# Altium schematic symbol library BluetoothTracking.SchLib: 121 symbols
Pins are listed as number, name and electrical type; pins without a type are passive.

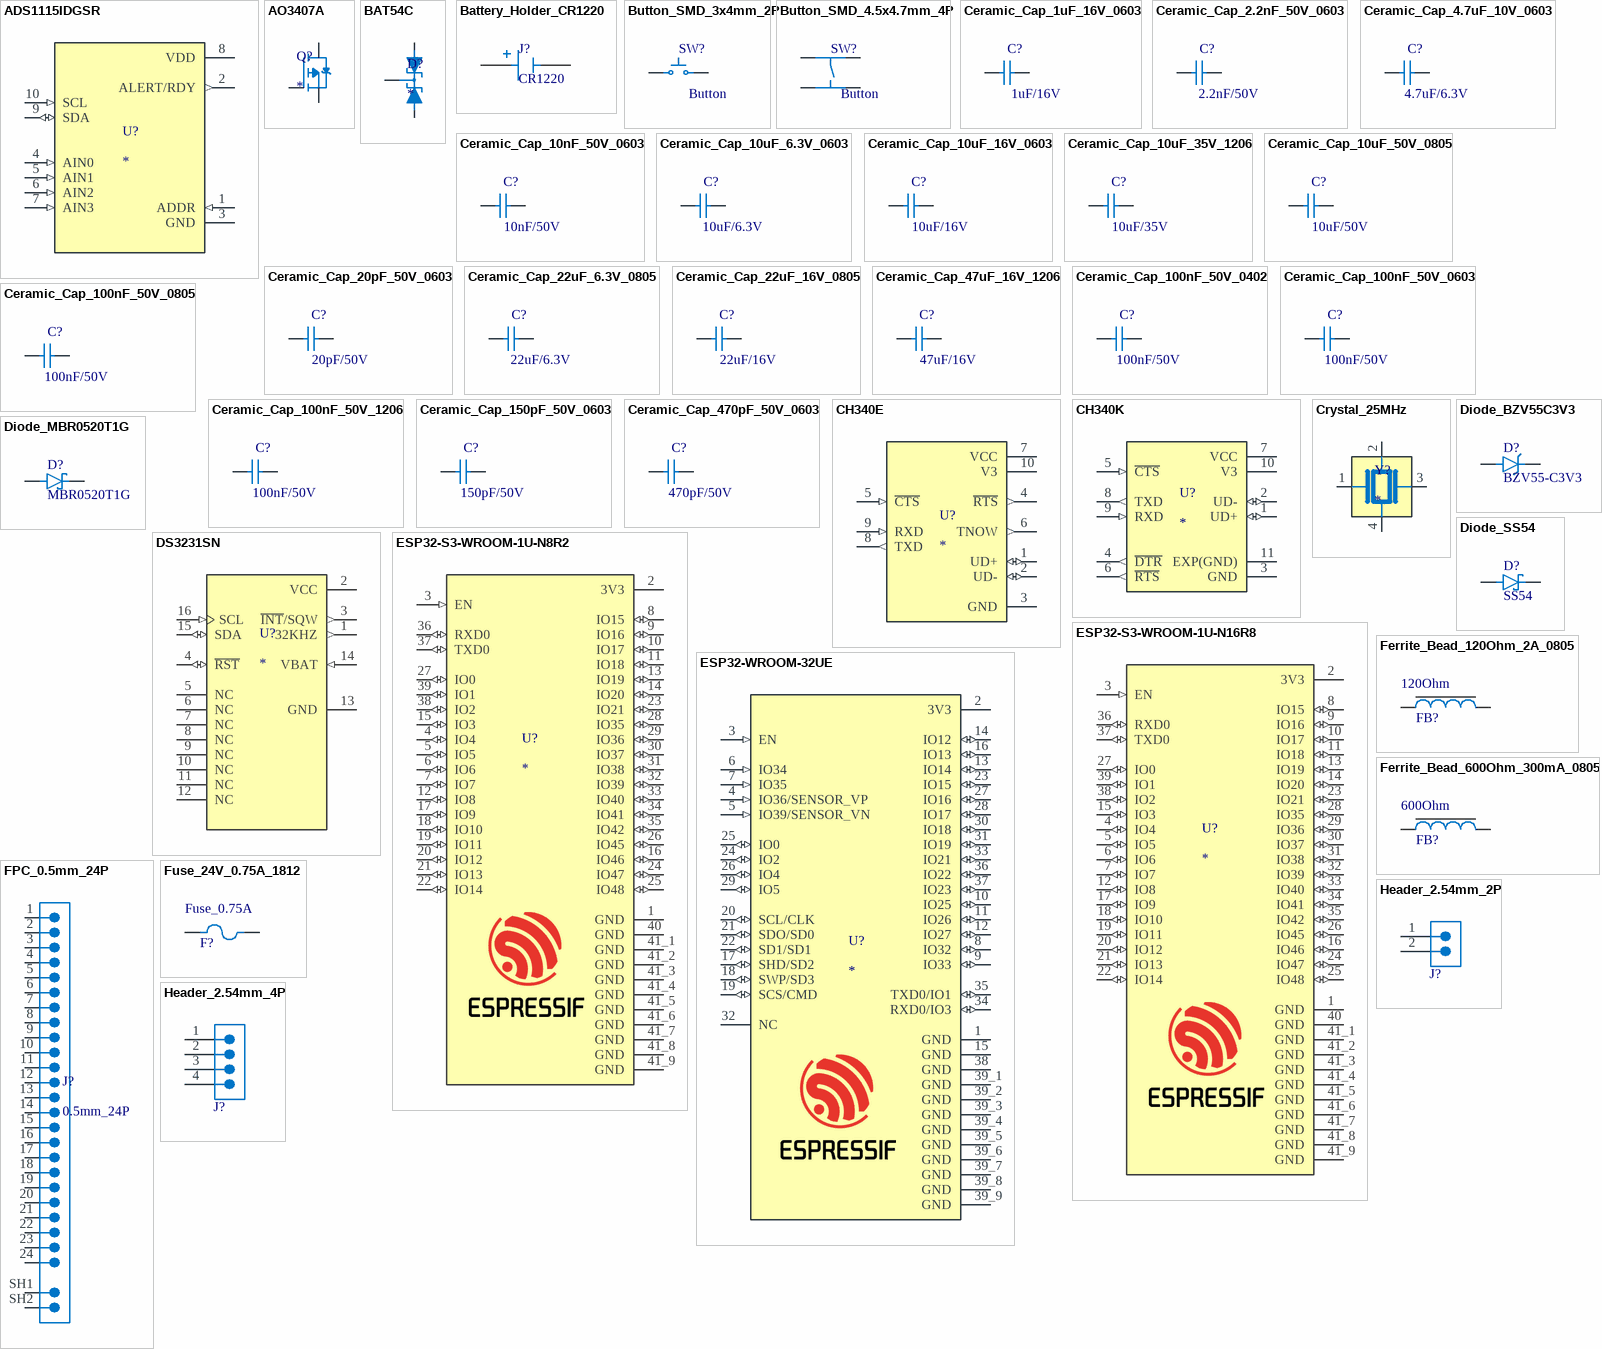
[diagram p0: symbols ADS1115IDGSR to Header_2.54mm_4P]

## ADS1115IDGSR
designator U?
Supply Part Number: ADS1115IDGSR IC ADC 16-Bit Sigma-Delta 10-VSSOP; Supply Name: Thegioiic; Datasheet: https://www.ti.com/lit/ds/symlink/ads1114.pdf?ts=1737360738578&ref_url=https%253A%252F%252Fwww.google.com%252F; Supply URL: https://www.thegioiic.com/ads1115idgsr-ic-adc-16-bit-sigma-delta-10-vssop
footprint VSSOP-10
pins: 1 ADDR (in), 2 ALERT/RDY (out), 3 GND (power), 4 AIN0 (in), 5 AIN1 (in), 6 AIN2 (in), 7 AIN3 (in), 8 VDD (power), 9 SDA (io), 10 SCL (in)

## AO3407A
designator Q?
P-Channel 30V 4.3A 1.4W  Surface Mount SOT-23-3L; Supply Part Number: AO3407A MOSFET Kênh P 30V 4.3A SOT-23-3; Supply Name: Thegioiic; Datasheet: https://www.thegioiic.com/upload/documents/1734591726_Alpha---Omega-Semicon-AO3407A.pdf; Supply URL: https://www.thegioiic.com/ao3407a-mosfet-kenh-p-30v-4-3a-sot-23-3
footprint SOT-23
pins: 1 G, 2 S, 3 D

## BAT54C
designator D?
DIODE ARRAY SCHOTTKY 30V SOT23-3; Supply Part Number: BAT54C; Supply Name: Thegioiic; Datasheet: https://www.alldatasheet.com/datasheet-pdf/view/527995/NXP/BAT54C.html; Supply URL: https://www.thegioiic.com/bat54c
footprint SOT-23
pins: 1 A1, 2 A2, 3 C

## Battery_Holder_CR1220
designator J?, comment CR1220
Coin Cell Battery Retainer, Horizontal SMT, for CR1220 Coin Cell Batteries, Tape & Reeled; Supply Part Number: Đế Pin CR1220 Dán SMD; Supply Name: Thegioiic; Datasheet: *; Supply URL: https://www.thegioiic.com/de-pin-cr1220-dan-smd
footprint Battery_Holder_CR1220
pins: N NEG, P POS

## Button_SMD_3x4mm_2P
designator SW?, comment Button
Supply Part Number: Nút Nhấn 3x4mm Cao 2.5mm 2 Chân SMD; Supply Name: Thegioiic; Datasheet: *; Supply URL: https://www.thegioiic.com/nut-nhan-3x4mm-cao-2-5mm-2-chan-smd
footprint Button_3x4mm_SMD_2P
pins: 1, 2

## Button_SMD_4.5x4.7mm_4P
designator SW?, comment Button
Supply Part Number: Nút Nhấn Rùa 4.5x4.7mm Cao 1.65mm 4 Chân SMD; Supply Name: Thegioiic; Datasheet: *; Supply URL: https://www.thegioiic.com/nut-nhan-rua-4-5x4-7mm-cao-1-65mm-4-chan-smd
footprint Button_4.5x4.7mm_SMD_4P
pins: 1, 2, 3, 4

## Ceramic_Cap_1uF_16V_0603
designator C?, comment 1uF/16V
CAP, size 0603, 1uF, 16V; Supply Part Number: Tụ Gốm 0603 1uF 16V; Supply Name: Thegioiic; Datasheet: *; Supply URL: https://www.thegioiic.com/tu-gom-0603-1uf-16v
footprint CAP_0603
pins: 1, 2

## Ceramic_Cap_2.2nF_50V_0603
designator C?, comment 2.2nF/50V
CAP, size 0603, 2.2nF, 50V; Supply Part Number: Tụ Gốm 0603 2.2nF 50V; Supply Name: Thegioiic; Datasheet: *; Supply URL: https://www.thegioiic.com/tu-gom-0603-2-2nf-50v
footprint CAP_0603
pins: 1, 2

## Ceramic_Cap_4.7uF_10V_0603
designator C?, comment 4.7uF/6.3V
CAP, size 0603, 4.7uF, 10V; Supply Part Number: Tụ Gốm 0603 4.7uF 10V; Supply Name: Thegioiic; Datasheet: *; Supply URL: https://www.thegioiic.com/tu-gom-0603-4-7uf-10v
footprint CAP_0805
pins: 1, 2

## Ceramic_Cap_10nF_50V_0603
designator C?, comment 10nF/50V
CAP, size 0603, 10nF, 50V; Supply Part Number: Tụ Gốm 0603 10nF 50V; Supply Name: Thegioiic; Datasheet: *; Supply URL: https://www.thegioiic.com/tu-gom-0603-10nf-50v
footprint CAP_0603
pins: 1, 2

## Ceramic_Cap_10uF_6.3V_0603
designator C?, comment 10uF/6.3V
CAP, size 0603, 10uF, 6.3V; Supply Part Number: CC0603KRX5R5BB106; Supply Name: tme; Datasheet: *; Supply URL: http://www.tme.vn/Product.aspx?id=1165#page=pro_info
footprint CAP_0603
pins: 1, 2

## Ceramic_Cap_10uF_16V_0603
designator C?, comment 10uF/16V
CAP, size 0603, 10uF, 16V; Supply Part Number: Tụ Gốm 0603 10uF 16V; Supply Name: Thegioiic; Datasheet: *; Supply URL: https://www.thegioiic.com/tu-gom-0603-10uf-16v
footprint CAP_0603
pins: 1, 2

## Ceramic_Cap_10uF_35V_1206
designator C?, comment 10uF/35V
CAP, size 1206, 10uF, 35V; Supply Part Number: Tụ Gốm 1206 10uF 35V; Supply Name: Thegioiic; Datasheet: *; Supply URL: https://www.thegioiic.com/tu-gom-1206-10uf-35v
footprint CAP_1206 (Chip Capacitor, 2-Leads, Body 3.20x1.60mm, IPC Medium Density)
pins: 1, 2

## Ceramic_Cap_10uF_50V_0805
designator C?, comment 10uF/50V
CAP, size 0805, 10uF, 50V; Supply Part Number: Tụ Gốm 0805 10uF 50V; Supply Name: Thegioiic; Datasheet: *; Supply URL: https://www.thegioiic.com/tu-gom-0805-10uf-50v
footprint CAP_0805
pins: 1, 2

## Ceramic_Cap_20pF_50V_0603
designator C?, comment 20pF/50V
CAP, size 0603, 20pF, 50V; Supply Part Number: Tụ Gốm 0603 20pF 50V; Supply Name: Thegioiic; Datasheet: *; Supply URL: https://www.thegioiic.com/tu-gom-0603-20pf-50v
footprint CAP_0603
pins: 1, 2

## Ceramic_Cap_22uF_6.3V_0805
designator C?, comment 22uF/6.3V
CAP, size 0805, 22uF, 6.3V; Supply Part Number: Tụ Gốm 0805 22uF 6.3V; Supply Name: Thegioiic; Datasheet: *; Supply URL: https://www.thegioiic.com/tu-gom-0805-22uf-6-3v
footprint CAP_0805
pins: 1, 2

## Ceramic_Cap_22uF_16V_0805
designator C?, comment 22uF/16V
CAP, size 0805, 22uF, 16V; Supply Part Number: Tụ Gốm 0805 22uF 16V; Supply Name: Thegioiic; Datasheet: *; Supply URL: https://www.thegioiic.com/tu-gom-0805-22uf-16v
footprint CAP_0805
pins: 1, 2

## Ceramic_Cap_47uF_16V_1206
designator C?, comment 47uF/16V
CAP, size 1206, 47uF, 16V; Supply Part Number: Tụ Gốm 1206 47uF 16V; Supply Name: Thegioiic; Datasheet: *; Supply URL: https://www.thegioiic.com/tu-gom-1206-47uf-16v
footprint CAP_1206 (Chip Capacitor, 2-Leads, Body 3.20x1.60mm, IPC Medium Density)
pins: 1, 2

## Ceramic_Cap_100nF_50V_0402
designator C?, comment 100nF/50V
CAP, size 0402, 100nF, 50V; Supply Part Number: Tụ Gốm 0402 100nF (0.1uF) 50V; Supply Name: Thegioiic; Datasheet: *; Supply URL: https://www.thegioiic.com/tu-gom-0402-100nf-0-1uf-50v
footprint CAP_0402
pins: 1, 2

## Ceramic_Cap_100nF_50V_0603
designator C?, comment 100nF/50V
CAP, size 0603, 100nF, 50V; Supply Part Number: Tụ Gốm 0603 100nF (0.1uF) 50V; Supply Name: Thegioiic; Datasheet: *; Supply URL: https://www.thegioiic.com/tu-gom-0603-100nf-0-1uf-50v
footprint CAP_0603
pins: 1, 2

## Ceramic_Cap_100nF_50V_0805
designator C?, comment 100nF/50V
CAP, size 0805, 100nF, 50V; Supply Part Number: Tụ Gốm 0805 100nF (0.1uF) 50V; Supply Name: Thegioiic; Datasheet: *; Supply URL: https://www.thegioiic.com/tu-gom-0805-100nf-0-1uf-50v
footprint CAP_0805
pins: 1, 2

## Ceramic_Cap_100nF_50V_1206
designator C?, comment 100nF/50V
CAP, size 1206, 100nF, 50V; Supply Part Number: Tụ Gốm 1206 100nF (0.1uF) 50V; Supply Name: Thegioiic; Datasheet: *; Supply URL: https://www.thegioiic.com/tu-gom-1206-100nf-0-1uf-50v
footprint CAP_1206 (Chip Capacitor, 2-Leads, Body 3.20x1.60mm, IPC Medium Density)
pins: 1, 2

## Ceramic_Cap_150pF_50V_0603
designator C?, comment 150pF/50V
CAP, size 0603, 150pF, 50V; Supply Part Number: Tụ Gốm 0603 150pF 50V; Supply Name: Thegioiic; Datasheet: *; Supply URL: https://www.thegioiic.com/tu-gom-0603-150pf-50v
footprint CAP_0603
pins: 1, 2

## Ceramic_Cap_470pF_50V_0603
designator C?, comment 470pF/50V
CAP, size 0603, 470pF, 50V; Supply Part Number: Tụ Gốm 0603 470pF 50V; Supply Name: Thegioiic; Datasheet: *; Supply URL: https://www.thegioiic.com/tu-gom-0603-470pf-50v
footprint CAP_0603
pins: 1, 2

## CH340E
designator U?
USB to Serial IC - CH340E; Supply Part Number: CH340E IC USB To Serial 2Mbps 10-MSOP; Supply Name: Thegioiic; Datasheet: https://www.mpja.com/download/35227cpdata.pdf; Supply URL: https://www.thegioiic.com/ch340e-ic-usb-to-serial-2mbps-10-msop
footprint MSOP-10
pins: 1 UD+ (io), 2 UD- (io), 3 GND (power), 4 ~{RTS} (out), 5 ~{CTS} (in), 6 TNOW (out), 7 VCC (power), 8 TXD (out), 9 RXD (in), 10 V3 (power)

## CH340K
designator U?
USB to Serial Port Chip; Supply Part Number: CH340K; Supply Name: LinhKienThuDuc; Datasheet: https://www.alldatasheet.com/datasheet-pdf/view/1817211/WCH/CH340K.html; Supply URL: https://linhkienthuduc.com/san-pham/ch340k/
footprint EESOP10 (SOP, 10-Leads, Body 4.90x3.94mm, Pitch 1.00mm, Thermal Pad 3.40x2.50mm, IPC Medium Density)
pins: 1 UD+ (io), 2 UD- (io), 3 GND (power), 4 ~{DTR} (out), 5 ~{CTS} (in), 6 ~{RTS} (out), 7 VCC (power), 8 TXD (out), 9 RXD (in), 10 V3 (power), 11 EXP(GND) (power)

## Crystal_25MHz
designator Y?
25 MHz Crystal 4-SMD; Supply Part Number: Thạch Anh 25MHz 3225 4 Chân SMD; Supply Name: Thegioiic; Supply URL: https://www.thegioiic.com/thach-anh-25mhz-3225-4-chan-smd
footprint Crystal_SMD_3225_4P
pins: 1, 2 GND (power), 3 2, 4 GND (power)

## Diode_BZV55C3V3
designator D?, comment BZV55-C3V3
DIODE ZENER 3.3V 500 mW; Supply Name: tme; Datasheet: https://www.alldatasheet.com/datasheet-pdf/view/17578/PHILIPS/BZV55.html; Supply Part Number: BZV55-C3V3; Supply URL: http://www.tme.vn/Product.aspx?id=1871#page=pro_info
footprint SOD-80
pins: A, C

## Diode_MBR0520T1G
designator D?, comment MBR0520T1G
0.5A 20V SMD Schottky Rectifier Diode; Supply Name: tme; Datasheet: https://www.alldatasheet.com/datasheet-pdf/view/281319/SEMTECH_ELEC/MBR0520.html; Supply Part Number: MBR0520T1G; Supply URL: http://www.tme.vn/Product.aspx?id=1582#page=pro_info
footprint SOD-123
pins: A, C

## Diode_SS54
designator D?, comment SS54
Diode Schottky 40V 5A Surface Mount SMA; Supply Part Number: SS54 SMA Diode Shotky 5A 40V; Supply Name: Thegioiic; Datasheet: https://www.thegioiic.com/upload/documents/dc8a63b3eda4738bc390d9dc570a4e18.pdf; Supply URL: https://www.thegioiic.com/ss54-sma-diode-shotky-5a-40v
footprint D_SMA
pins: 1 C, 2 A

## DS3231SN
designator U?
Real Time Clock (RTC) IC Clock/Calendar - I²C, 2-Wire Serial 16-SOIC (0.295, 7.50mm Width); Supply Part Number: DS3231SN#T&R IC RTC Clock/Calendar; Supply Name: Thegioiic; Datasheet: https://www.mouser.com/datasheet/2/256/DS3231-102175.pdf; Supply URL: https://www.thegioiic.com/ds3231sn-t-r-ic-rtc-clock-calendar-16-sop
footprint SOIC-16
pins: 1 32KHZ (out), 2 VCC (power), 3 ~{INT}/SQW (out), 4 ~{RST} (io), 5 NC, 6 NC, 7 NC, 8 NC, 9 NC, 10 NC, 11 NC, 12 NC, 13 GND (power), 14 VBAT (in), 15 SDA (io), 16 SCL (in)

## ESP32-S3-WROOM-1U-N8R2
designator U?
Bluetooth, WiFi 802.11b/g/n, Bluetooth v5.0 Transceiver Module 2.4GHz Antenna Not Included, U.FL Surface Mount; Supply Part Number: ESP32-S3-WROOM-1U-N8R2 Module WiFi Bluetooth 8MB Flash, 2MB SRAM 2.4GHz; Supply Name: Thegioiic; Datasheet: https://www.espressif.com/sites/default/files/documentation/esp32-s3_datasheet_en.pdf; Supply URL: https://www.thegioiic.com/esp32-s3-wroom-1u-n8r2-module-wifi-bluetooth-8mb-flash-2mb-sram-2-4ghz
footprint XCVR_ESP32-S3-WROOM-1U-N16R8
pins: 1 GND (power), 2 3V3 (power), 3 EN (in), 4 IO4 (io), 5 IO5 (io), 6 IO6 (io), 7 IO7 (io), 8 IO15 (io), 9 IO16 (io), 10 IO17 (io), 11 IO18 (io), 12 IO8 (io), 13 IO19 (io), 14 IO20 (io), 15 IO3 (io), 16 IO46 (io), 17 IO9 (io), 18 IO10 (io), 19 IO11 (io), 20 IO12 (io), 21 IO13 (io), 22 IO14 (io), 23 IO21 (io), 24 IO47 (io), 25 IO48 (io), 26 IO45 (io), 27 IO0 (io), 28 IO35 (io), 29 IO36 (io), 30 IO37 (io), 31 IO38 (io), 32 IO39 (io), 33 IO40 (io), 34 IO41 (io), 35 IO42 (io), 36 RXD0 (io), 37 TXD0 (io), 38 IO2 (io), 39 IO1 (io), 40 GND (power), 41_1 GND (power), 41_2 GND (power), 41_3 GND (power), 41_4 GND (power), 41_5 GND (power), 41_6 GND (power), 41_7 GND (power), 41_8 GND (power), 41_9 GND (power)

## ESP32-S3-WROOM-1U-N16R8
designator U?
Bluetooth, WiFi 802.11b/g/n, Bluetooth v5.0 Transceiver Module 2.4GHz Antenna Not Included, U.FL Surface Mount; Supply Part Number: ESP32-S3-WROOM-1U-N16R8 Thu Phát Wifi BLE ESP32 16MB; Supply Name: DienTuTuyetNga; Datasheet: https://www.espressif.com/sites/default/files/documentation/esp32-s3_datasheet_en.pdf; Supply URL: https://dientutuyetnga.com/products/esp32-s3-wroom-1u-n16r8-thu-phat-wifi-ble-esp32-16mb
footprint XCVR_ESP32-S3-WROOM-1U-N16R8
pins: 1 GND (power), 2 3V3 (power), 3 EN (in), 4 IO4 (io), 5 IO5 (io), 6 IO6 (io), 7 IO7 (io), 8 IO15 (io), 9 IO16 (io), 10 IO17 (io), 11 IO18 (io), 12 IO8 (io), 13 IO19 (io), 14 IO20 (io), 15 IO3 (io), 16 IO46 (io), 17 IO9 (io), 18 IO10 (io), 19 IO11 (io), 20 IO12 (io), 21 IO13 (io), 22 IO14 (io), 23 IO21 (io), 24 IO47 (io), 25 IO48 (io), 26 IO45 (io), 27 IO0 (io), 28 IO35 (io), 29 IO36 (io), 30 IO37 (io), 31 IO38 (io), 32 IO39 (io), 33 IO40 (io), 34 IO41 (io), 35 IO42 (io), 36 RXD0 (io), 37 TXD0 (io), 38 IO2 (io), 39 IO1 (io), 40 GND (power), 41_1 GND (power), 41_2 GND (power), 41_3 GND (power), 41_4 GND (power), 41_5 GND (power), 41_6 GND (power), 41_7 GND (power), 41_8 GND (power), 41_9 GND (power)

## ESP32-WROOM-32UE
designator U?
Bluetooth, WiFi 802.11b/g/n, Bluetooth v4.2 +EDR, Class 1, 2 and 3 Transceiver Module 2.4GHz ~ 2.5GHz Antenna Not Included, U.FL Surface Mount; Supply Part Number: ESP32-WROOM-32UE-N4 Module WiFi Bluetooth 4MB Flash 2.4GHz; Supply Name: Thegioiic; Datasheet: https://www.espressif.com/sites/default/files/documentation/esp32-wroom-32e_esp32-wroom-32ue_datasheet_en.pdf; Supply URL: https://www.thegioiic.com/esp32-wroom-32ue-n4-module-wifi-bluetooth-4mb-flash-2-4ghz
footprint XCVR_ESP32-WROOM-32UE
pins: 1 GND (power), 2 3V3 (power), 3 EN (in), 4 IO36/SENSOR_VP (in), 5 IO39/SENSOR_VN (in), 6 IO34 (in), 7 IO35 (in), 8 IO32 (io), 9 IO33 (io), 10 IO25 (io), 11 IO26 (io), 12 IO27 (io), 13 IO14 (io), 14 IO12 (io), 15 GND (power), 16 IO13 (io), 17 SHD/SD2 (io), 18 SWP/SD3 (io), 19 SCS/CMD (io), 20 SCL/CLK (io), 21 SDO/SD0 (io), 22 SD1/SD1 (io), 23 IO15 (io), 24 IO2 (io), 25 IO0 (io), 26 IO4 (io), 27 IO16 (io), 28 IO17 (io), 29 IO5 (io), 30 IO18 (io), 31 IO19 (io), 32 NC, 33 IO21 (io), 34 RXD0/IO3 (io), 35 TXD0/IO1 (io), 36 IO22 (io), 37 IO23 (io), 38 GND (power), 39_1 GND (power), 39_2 GND (power), 39_3 GND (power), 39_4 GND (power), 39_5 GND (power), 39_6 GND (power), 39_7 GND (power), 39_8 GND (power), 39_9 GND (power)

## Ferrite_Bead_120Ohm_2A_0805
designator FB?, comment 120Ohm
Ferrite Bead, size 0805, 120Ohm, 2A; Supply Part Number: CBW201209U121T Ferrite Beads 2A 120 Ohm 0805; Supply Name: Thegioiic; Supply URL: https://www.thegioiic.com/cbw201209u121t-ferrite-beads-2a-120-ohm-0805
footprint Ferrite_Bead_0805 (Ferrite  Bead, body 2.00x1.20mm)
pins: 1, 2

## Ferrite_Bead_600Ohm_300mA_0805
designator FB?, comment 600Ohm
Ferrite Bead, size 0805, 600Ohm, 300mA; Supply Part Number: CBG201209U601T Ferrite Beads 600 Ohm 0805; Supply Name: Thegioiic; Supply URL: https://www.thegioiic.com/cbg201209u601t-ferrite-beads-600-ohm-0805
footprint Ferrite_Bead_0805 (Ferrite  Bead, body 2.00x1.20mm)
pins: 1, 2

## FPC_0.5mm_24P
designator J?, comment 0.5mm_24P
Cổng FPC 24 Chân 0.5mm Tiếp Điểm Trên, 0.4A 50V; Supply Name: Thegioiic; Supply Part Number: Cổng FPC 24 Chân 0.5mm Tiếp Điểm Trên; Supply URL: https://www.thegioiic.com/cong-fpc-24-chan-0-5mm-tiep-diem-tren
footprint FPC_0.5mm_24P
pins: 1, 2, 3, 4, 5, 6, 7, 8, 9, 10, 11, 12, 13, 14, 15, 16, 17, 18, 19, 20, 21, 22, 23, 24, SH1 SHIELD, SH2 SHIELD

## Fuse_24V_0.75A_1812
designator F?, comment Fuse_0.75A
MF-MSMF075/24-2 Cầu Chì Tự Phục Hồi 1812 24V 0.75A; Supply Name: Thegioiic; Datasheet: https://www.bourns.com/docs/product-datasheets/mf-msmf.pdf?sfvrsn=4a75e5c0_64; Supply Part Number: MF-MSMF075/24-2 Cầu Chì Tự Phục Hồi 1812 24V 0.75A; Supply URL: https://www.thegioiic.com/mf-msmf075-24-2-cau-chi-tu-phuc-hoi-1812-24v-0-75a
footprint FUSER_MF-MSMF075/24-2
pins: 1, 2

## Header_2.54mm_2P
designator J?, comment 2.54mm_2P  (value not drawn)
Hàng Rào Đực Đơn 2.54mm 40 Chân 1 Hàng Cao 11.2mm Xuyên Lỗ; Supply Name: Thegioiic; Supply Part Number: Hàng Rào Đực Đơn 2.54mm 40 Chân 1 Hàng Cao 11.2mm Xuyên Lỗ; Supply URL: https://www.thegioiic.com/hang-rao-duc-don-2-54mm-40-chan-1-hang-cao-11-2mm-xuyen-lo
footprint Header_2.54mm_2P (Vertical PCB Header, pitch 2.54mm, 2p)
pins: 1, 2

## Header_2.54mm_4P
designator J?, comment 2.54mm_4P  (value not drawn)
Hàng Rào Đực Đơn 2.54mm 40 Chân 1 Hàng Cao 11.2mm Xuyên Lỗ; Supply Name: Thegioiic; Supply Part Number: Hàng Rào Đực Đơn 2.54mm 40 Chân 1 Hàng Cao 11.2mm Xuyên Lỗ; Supply URL: https://www.thegioiic.com/hang-rao-duc-don-2-54mm-40-chan-1-hang-cao-11-2mm-xuyen-lo
footprint Header_2.54mm_4P (Vertical PCB Header, pitch 2.54mm, 4p)
pins: 1, 2, 3, 4

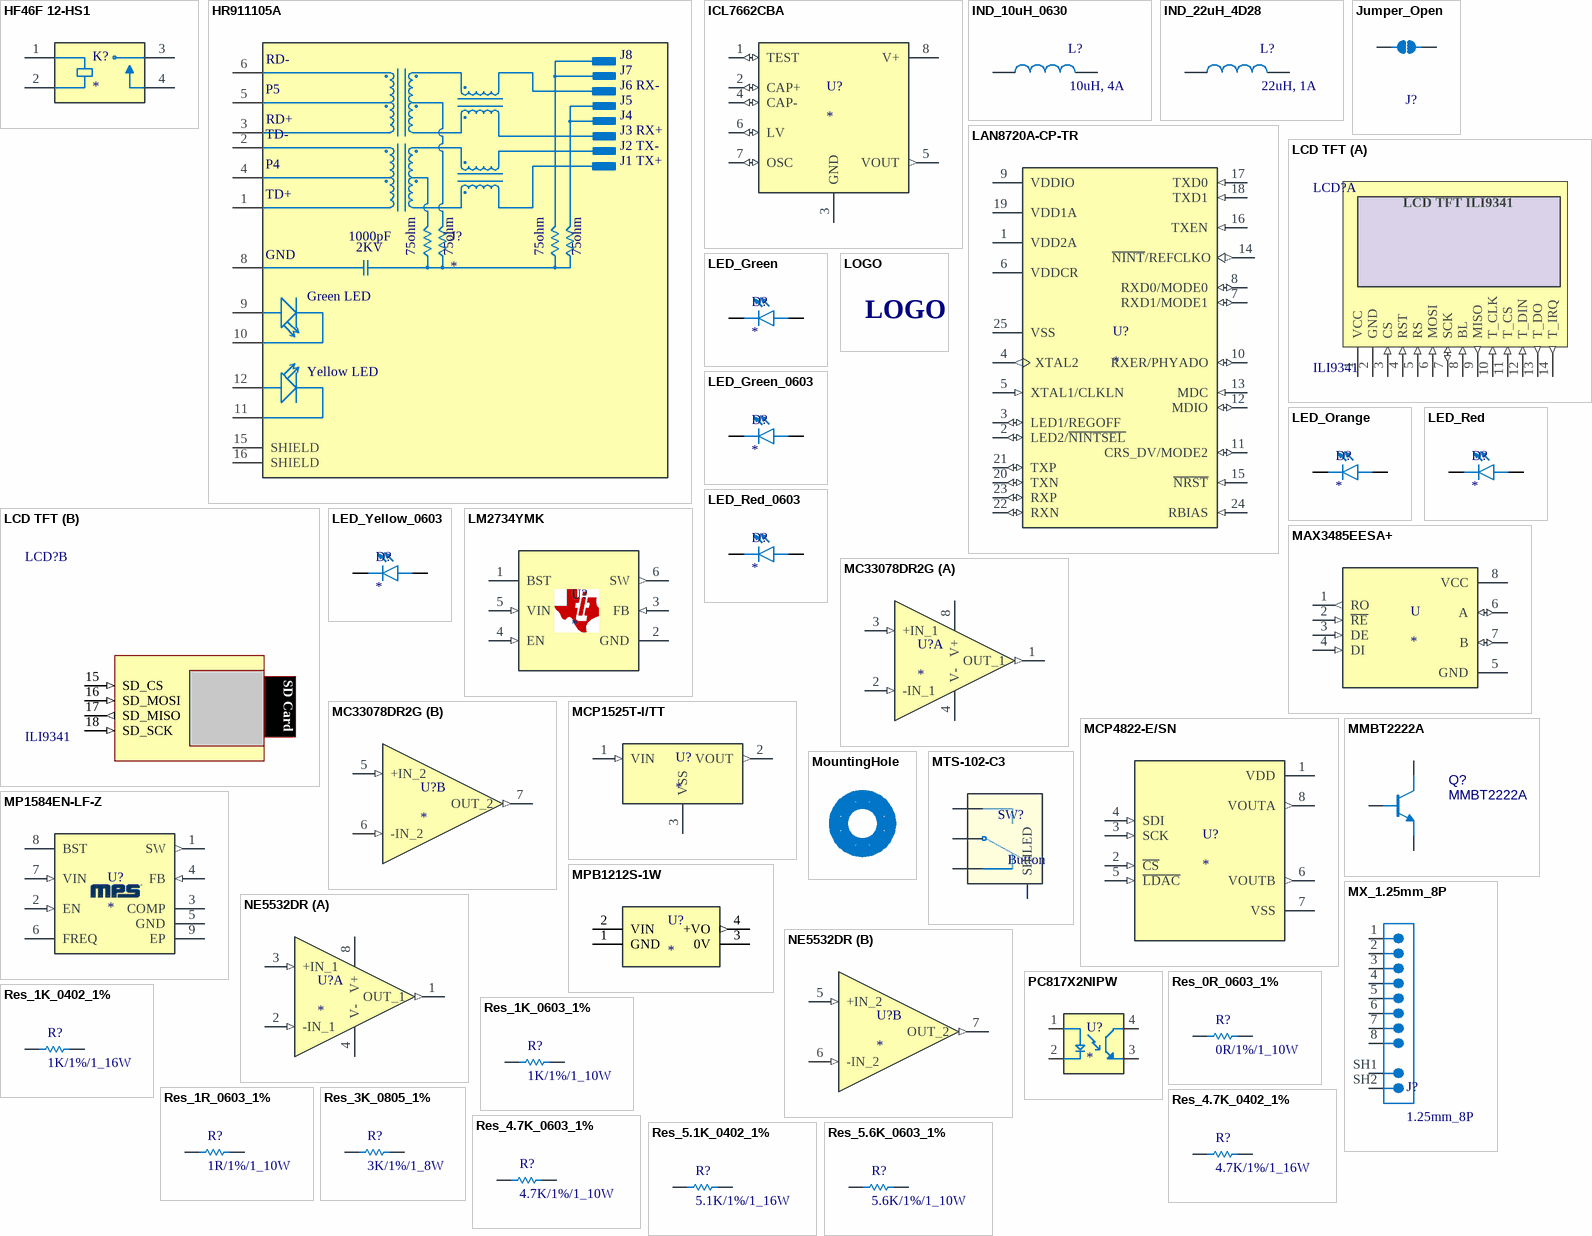
[diagram p1: symbols HF46F 12-HS1 to Res_5.6K_0603_1%]

## HF46F 12-HS1
designator K?
4 chân xuyên lỗ; Supply Part Number: HF46F 12-HS1 Rơ Le 12VDC 5A SPST-NO 4 Chân; Supply Name: Thegioiic; Datasheet: https://www.thegioiic.com/upload/documents/1734591411_HF-Xiamen-Hongfa-Electroacoustic-HF46F.pdf; Supply URL: https://www.thegioiic.com/hf46f-12-hs1-ro-le-12vdc-5a-spst-no-4-chan
footprint RELAY_HF46F_005-HS1
pins: 1 COIL1, 2 COIL2, 3 COM, 4 NO

## HR911105A
designator J?
DIP RJ45 Connector;; Supply Part Number: HR911105A Cổng RJ45 Cái Có LED Hanrun; Supply Name: Thegioiic; Datasheet: https://core-electronics.com.au/attachments/localcontent/cc11be56d66bb63d5f1eeb85492439c0_335950a6d06.pdf; Supply URL: https://www.thegioiic.com/hr911105a-cong-rj45-cai-co-led-hanrun
footprint HANRUN_HR911105A
pins: 1 TD+, 2 TD-, 3 RD+, 4 P4, 5 P5, 6 RD-, 8 GND (power), 9 GA, 10 GC, 11 YC, 12 YA, 15 SHIELD, 16 SHIELD
text: J8; J7; J6 RX-; J5; J4; J3 RX+; J2 TX-; J1 TX+; 1000pF; 2KV; 75ohm; Green LED; Yellow LED

## ICL7662CBA
designator U?
Vin: 4.5V ~ 20V, Vout: -Vin, 8-SOIC; Supply Part Number: IC Dán ICL7662; Supply Name: Chipn24; Datasheet: https://www.analog.com/media/en/technical-documentation/data-sheets/icl7662-si7661.pdf; Supply URL: https://chipn24.com/sop-ic-dan-icl7662-sop-8-smd-icl7662cba-id9015.html
footprint SOIC-8
pins: 1 TEST (io), 2 CAP+ (io), 3 GND (power), 4 CAP- (io), 5 VOUT (out), 6 LV (io), 7 OSC (io), 8 V+ (power)

## IND_10uH_0630
designator L?, comment 10uH, 4A
10uH, 4A, Size 0630; Supply Part Number: Cuộn cảm 10UH 0630; Supply Name: icdayroi; Supply URL: https://icdayroi.com/cuon-cam-10uh-0630
footprint Inductor_0630 (SMD Power Inductor, body 7x7x3mm)
pins: 1, 2

## IND_22uH_4D28
designator L?, comment 22uH, 1A
22uH 20% 1A SMD Power Inductor 4.8x4.8x2.8 mm; Supply Name: tme; Supply Part Number: 22uH 20% 1A SMD Power Inductor 4.8x4.8x2.8 mm; Supply URL: http://www.tme.vn/Product.aspx?id=1639#page=pro_info
footprint Inductor_CDRH4D28 (SMD Power Inductor, body 4.8x4.8x2.8 mm)
pins: 1, 2

## Jumper_Open
designator J?
Datasheet: *; Supply Name: *; Supply Part Number: *; Supply URL: *
footprint SolderBridgeOpen
pins: 1, 2

## LAN8720A-CP-TR
designator U?
PHY 1-CH 10Mbps/100Mbps 2.5V/3.3V 24-PinQFN EP Tray; Supply Part Number: LAN8720A IC Truyền Nhận Ethernet 24-QFN; Supply Name: Thegioiic; Datasheet: https://ww1.microchip.com/downloads/en/devicedoc/00002165b.pdf; Supply URL: https://www.thegioiic.com/lan8720a-ic-truyen-nhan-ethernet-24-qfn
footprint QFN-EP-24
pins: 1 VDD2A (power), 2 LED2/~{NINTSEL} (io), 3 LED1/REGOFF (io), 4 XTAL2 (out), 5 XTAL1/CLKLN (in), 6 VDDCR (power), 7 RXD1/MODE1 (io), 8 RXD0/MODE0 (io), 9 VDDIO (power), 10 RXER/PHYADO (io), 11 CRS_DV/MODE2 (io), 12 MDIO (io), 13 MDC (in), 14 ~{NINT}/REFCLKO (out), 15 ~{NRST} (in), 16 TXEN (in), 17 TXD0 (in), 18 TXD1 (in), 19 VDD1A (power), 20 TXN (io), 21 TXP (io), 22 RXN (io), 23 RXP (io), 24 RBIAS (in), 25 VSS (power)

## LCD TFT
designator LCD?, comment ILI9341
Supply Part Number: LCD 3.2inch 320x240 TFT ILI9341 Cảm Ứng Điện Trở SPI; Supply Name: Thegioiic; Supply URL: https://www.thegioiic.com/lcd-3-2inch-320x240-tft-ili9341-cam-ung-dien-tro-spi
footprint LCD_TFT_ILI9341_3.2
part A pins: 1 VCC (power), 2 GND (power), 3 CS (in), 4 RST (in), 5 RS (in), 6 MOSI (in), 7 SCK (io), 8 BL (in), 9 MISO (out), 10 T_CLK (in), 11 T_CS (in), 12 T_DIN (in), 13 T_DO (out), 14 T_IRQ (out)
part B pins: 15 SD_CS (in), 16 SD_MOSI (in), 17 SD_MISO (out), 18 SD_SCK (in)
part A text: LCD TFT ILI9341
part B text: SD Card

## LED_Green
designator D?
LED Green 0805; Supply Part Number: LED Xanh Lá 0805 Dán SMD Trong Suốt Harvatek; Supply Name: Thegioiic; Supply URL: https://www.thegioiic.com/led-xanh-la-0805-dan-smd-trong-suot-harvatek
footprint LED_0805
pins: A, C

## LED_Green_0603
designator D?
LED Green 0603; Supply Part Number: LED Xanh Lá 0603 Dán SMD Trong Suốt Harvatek; Supply Name: Thegioiic; Supply URL: https://www.thegioiic.com/led-xanh-la-0603-dan-smd-trong-suot-harvatek
footprint LED_0603G
pins: A, C

## LED_Orange
designator D?
LED Orange 0805; Supply Part Number: LED Cam 0805 Dán SMD Trong Suốt Harvatek; Supply Name: Thegioiic; Supply URL: https://www.thegioiic.com/led-cam-0805-dan-smd-trong-suot-harvatek
footprint LED_0805
pins: A, C

## LED_Red
designator D?
LED Red 0805; Supply Part Number: LED Đỏ 0805 Dán SMD Trong Suốt Harvatek; Supply Name: Thegioiic; Supply URL: https://www.thegioiic.com/led-do-0805-dan-smd-trong-suot-harvatek
footprint LED_0805
pins: A, C

## LED_Red_0603
designator D?
LED Red 0603; Supply Part Number: LED Đỏ 0603 Dán SMD Trong Suốt Harvatek; Supply Name: Thegioiic; Supply URL: https://www.thegioiic.com/led-do-0603-dan-smd-trong-suot-harvatek
footprint LED_0603R
pins: A, C

## LED_Yellow_0603
designator D?
LED Yellow 0603; Supply Part Number: LED Vàng 0603 Dán SMD Trong Suốt Harvatek; Supply Name: Thegioiic; Supply URL: https://www.thegioiic.com/led-vang-0603-dan-smd-trong-suot-harvatek
footprint LED_0603
footprint LED_0603Y
pins: A, C

## LM2734YMK
designator U?
1A Load Step-Down DC-DC Regulator SOT23-6; Supply Part Number: LM2734YMK; Supply Name: tme; Datasheet: https://www.ti.com/lit/ds/symlink/lm2734.pdf; Supply URL: http://www.tme.vn/Product.aspx?id=2552#page=pro_info
footprint TSOT-23-6
pins: 1 BST, 2 GND (power), 3 FB (in), 4 EN (in), 5 VIN (in), 6 SW (out)

## LOGO
designator *  (value not drawn)
footprint BK_LOGO

## MAX3485EESA+
designator U
1/1 Transceiver Half RS422, RS485 8-SOIC; Supply Part Number: MAX3485EESA+ Line Transceiver, 8-SOIC; Supply Name: Thegioiic; Datasheet: https://www.analog.com/media/en/technical-documentation/data-sheets/max3483e-max3491e.pdf; Supply URL: https://www.thegioiic.com/max3485eesa-line-transceiver-8-soic
footprint SOIC-8
pins: 1 RO (out), 2 ~{RE} (in), 3 DE (in), 4 DI (in), 5 GND (power), 6 A (io), 7 B (io), 8 VCC (power)

## MC33078DR2G
designator U?
MC Series 7 V/us 36 V SMT Low Noise Dual Operational Amplifier - SOIC-8; Supply Part Number: IC Dán MC33078; Supply Name: Chipn24; Datasheet: https://www.onsemi.com/pdf/datasheet/mc33078-d.pdf; Supply URL: https://chipn24.com/sop-ic-dan-mc33078-sop-8-smd-mc33078dr2g-33078-id5709.html
footprint SOIC-8
part A pins: 1 OUT_1 (out), 2 -IN_1 (in), 3 +IN_1 (in), 4 V- (power), 8 V+ (power)
part B pins: 5 +IN_2 (in), 6 -IN_2 (in), 7 OUT_2 (out)

## MCP1525T-I/TT
designator U?
Voltage Reference IC 2.5V; Supply Part Number: MCP1525T-I/TT IC Tham Chiếu Điện Áp 2.5V SOT-23; Supply Name: Thegioiic; Datasheet: https://ww1.microchip.com/downloads/aemDocuments/documents/APID/ProductDocuments/DataSheets/21653C.pdf; Supply URL: https://www.thegioiic.com/mcp1525t-i-tt-ic-tham-chieu-dien-ap-2-5v-sot-23
footprint SOT-23
pins: 1 VIN (in), 2 VOUT (out), 3 VSS

## MCP4822-E/SN
designator U?
12 Bit Digital to Analog Converter 2 8-SOIC; Supply Part Number: MCP4822-E/SN SOIC-8 DAC 12Bit Chính Hãng Microchip; Supply Name: BanLinhKien; Datasheet: https://ww1.microchip.com/downloads/aemDocuments/documents/OTH/ProductDocuments/DataSheets/20002249B.pdf; Supply URL: https://banlinhkien.com/m4822esn-soic8-dac-12bit-chinh-hang-microchip-p6651182.html
footprint SOIC-8
pins: 1 VDD (power), 2 ~{CS} (in), 3 SCK (in), 4 SDI (in), 5 ~{LDAC} (in), 6 VOUTB (out), 7 VSS (power), 8 VOUTA (out)

## MMBT2222A
designator Q?
Điện áp Vce max: 40V, dòng Ic max: 0.6A, công suất: 0.3W; Supply Part Number: MMBT2222A 1P Transistor NPN 40V 0.6A 3 Chân SOT-23; Supply Name: Thegioiic; Datasheet: https://www.thegioiic.com/upload/documents/1734592311_MMBT2222A.pdf; Supply URL: https://www.thegioiic.com/mmbt2222a-1p-transistor-npn-40v-0-6a-3-chan-sot-23
footprint SOT-23
pins: 1 B, 2 E, 3 C

## MountingHole
designator H?, comment Mounting Hole without connection  (value not drawn)
Datasheet: *; Supply Name: *; Supply Part Number: *; Supply URL: *
footprint MountingHole_3.2mm_M3_Pad_Via

## MP1584EN-LF-Z
designator U?
Buck Switching Regulator IC Positive Adjustable 0.8V 1 Output 3A 8-SOIC _0.154, 3.90mm Width_ Exposed Pad; Supply Part Number: MP1584EN-LF-Z; Supply Name: tme; Datasheet: https://www.monolithicpower.com/en/documentview/productdocument/index/version/2/document_type/Datasheet/lang/en/sku/MP1584EN-LF-Z/document_id/204/?srsltid=AfmBOopCyUDyOs-uLll4YtNPir4o4STehG4B04EkgGGTflYW96m-OPS4; Supply URL: http://www.tme.vn/Product.aspx?id=2070#page=pro_info
footprint SOIC-8E
pins: 1 SW (out), 2 EN (in), 3 COMP, 4 FB (in), 5 GND (power), 6 FREQ, 7 VIN (in), 8 BST, 9 EP (power)

## MPB1212S-1W
designator U?
No Description Available; Supply Part Number: Module nguồn cách ly B1212S-1W DC-DC (12V-12V); Supply Name: LinhKienThuDuc; Supply URL: https://linhkienthuduc.com/san-pham/module-nguon-cach-ly-b1212s-1w-dc-dc-12v-12v/
footprint B1212S
pins: 1 GND (power), 2 VIN (power), 3 0V (power), 4 +VO (out)

## MTS-102-C3
designator SW?, comment Button
Switch Toggle; Supply Part Number: MTS-102-C3 Công Tắc Toggle ON-ON Gạt Giữ 3 Chân Cong 6A 125VAC; Supply Name: Thegioiic; Datasheet: *; Supply URL: https://www.thegioiic.com/mts-102-c3-cong-tac-toggle-on-on-gat-giu-3-chan-cong-6a-125vac
footprint MTS-102-C3
pins: 1, 2, 3, SH SHILED

## MX_1.25mm_8P
designator J?, comment 1.25mm_8P
Đầu MX1.25mm 8 Chân Dán SMD Thẳng Đứng; Supply Name: Thegioiic; Supply Part Number: Đầu MX1.25mm 8 Chân Dán SMD Thẳng Đứng; Supply URL: https://www.thegioiic.com/dau-mx1-25mm-8-chan-dan-smd-thang-dung
footprint MX_1.25mm_8P
pins: 1, 2, 3, 4, 5, 6, 7, 8, SH1 SHIELD, SH2 SHIELD

## NE5532DR
designator U?
Low Noise Single/Dual Operational Amplifier - SOIC-8; Supply Part Number: NE5532DR; Supply Name: tme; Datasheet: https://www.ti.com/lit/ds/symlink/ne5532.pdf; Supply URL: http://www.tme.vn/Product.aspx?id=2122#page=pro_info
footprint SOIC-8
part A pins: 1 OUT_1 (out), 2 -IN_1 (in), 3 +IN_1 (in), 4 V- (power), 8 V+ (power)
part B pins: 5 +IN_2 (in), 6 -IN_2 (in), 7 OUT_2 (out)

## PC817X2NIPW
designator U?
Optocoupler DC-IN 1-CH Transistor DC-OUT 4-Pin; Supply Part Number: PC817X2NIPW Optoisolator Transistor Output 5000Vrms 1 Channel, SOP-4; Supply Name: Thegioiic; Datasheet: https://www.alldatasheet.com/datasheet-pdf/view/525168/SHARP/PC817X2NIP0F.html; Supply URL: https://www.thegioiic.com/pc817x2nipw-optoisolator-transistor-output-5000vrms-1-channel-sop-4
footprint SOP-4
pins: 1 A, 2 C, 3 ET, 4 CT

## Res_0R_0603_1%
designator R?, comment 0R/1%/1_10W
Resistor 0603 0 Ohm 1% 1_10W; Supply Part Number: Điện Trở 0 Ohm 0603 1%; Supply Name: Thegioiic; Supply URL: https://www.thegioiic.com/dien-tro-0-ohm-0603-1-
footprint Resistor_0603
pins: 1, 2

## Res_1K_0402_1%
designator R?, comment 1K/1%/1_16W
Resistor 0402 1KOhm 1% 1_16W; Supply Part Number: Điện Trở 1 KOhm 0402 1%; Supply Name: Thegioiic; Supply URL: https://www.thegioiic.com/dien-tro-1-kohm-0402-1-
footprint RESISTOR_0402 (Chip Resistor, 2-Leads, Body 1.50x0.60mm, IPC Medium Density)
pins: 1, 2

## Res_1K_0603_1%
designator R?, comment 1K/1%/1_10W
Resistor 0603 1KOhm 1% 1_10W; Supply Part Number: Điện Trở 1 KOhm 0603 1%; Supply Name: Thegioiic; Supply URL: https://www.thegioiic.com/dien-tro-1-kohm-0603-1-
footprint Resistor_0603
pins: 1, 2

## Res_1R_0603_1%
designator R?, comment 1R/1%/1_10W
Resistor 0603 1 Ohm 1% 1_10W; Supply Part Number: Điện Trở 1 Ohm 0603 1%; Supply Name: Thegioiic; Supply URL: https://www.thegioiic.com/dien-tro-1-ohm-0603-1-
footprint Resistor_0603
pins: 1, 2

## Res_3K_0805_1%
designator R?, comment 3K/1%/1_8W
Resistor 0805 3KOhm 1% 1_8W; Supply Part Number: Điện Trở 3 KOhm 0805 1%; Supply Name: Thegioiic; Supply URL: https://www.thegioiic.com/dien-tro-3-kohm-0805-1-
footprint Resistor_0805 (Chip Resistor, 2-Leads, Body 2,00x1,20mm, IPC Medium Density)
pins: 1, 2

## Res_4.7K_0402_1%
designator R?, comment 4.7K/1%/1_16W
Resistor 0402 4.7KOhm 1% 1_16W; Supply Part Number: Điện Trở 4.7 KOhm 0402 1%; Supply Name: Thegioiic; Supply URL: https://www.thegioiic.com/dien-tro-4-7-kohm-0402-1-
footprint RESISTOR_0402 (Chip Resistor, 2-Leads, Body 1.50x0.60mm, IPC Medium Density)
pins: 1, 2

## Res_4.7K_0603_1%
designator R?, comment 4.7K/1%/1_10W
Resistor 0603 4.7KOhm 1% 1_10W; Supply Part Number: Điện Trở 4.7 KOhm 0603 1%; Supply Name: Thegioiic; Supply URL: https://www.thegioiic.com/dien-tro-4-7-kohm-0603-1-
footprint Resistor_0603
pins: 1, 2

## Res_5.1K_0402_1%
designator R?, comment 5.1K/1%/1_16W
Resistor 0402 5.1KOhm 1% 1_16W; Supply Name: *; Supply Part Number: *; Supply URL: *
footprint RESISTOR_0402 (Chip Resistor, 2-Leads, Body 1.50x0.60mm, IPC Medium Density)
pins: 1, 2

## Res_5.6K_0603_1%
designator R?, comment 5.6K/1%/1_10W
Resistor 0603 5.6KOhm 1% 1_10W; Supply Part Number: Điện Trở 5.6 KOhm 0603 1%; Supply Name: Thegioiic; Supply URL: https://www.thegioiic.com/dien-tro-5-6-kohm-0603-1-
footprint Resistor_0603
pins: 1, 2

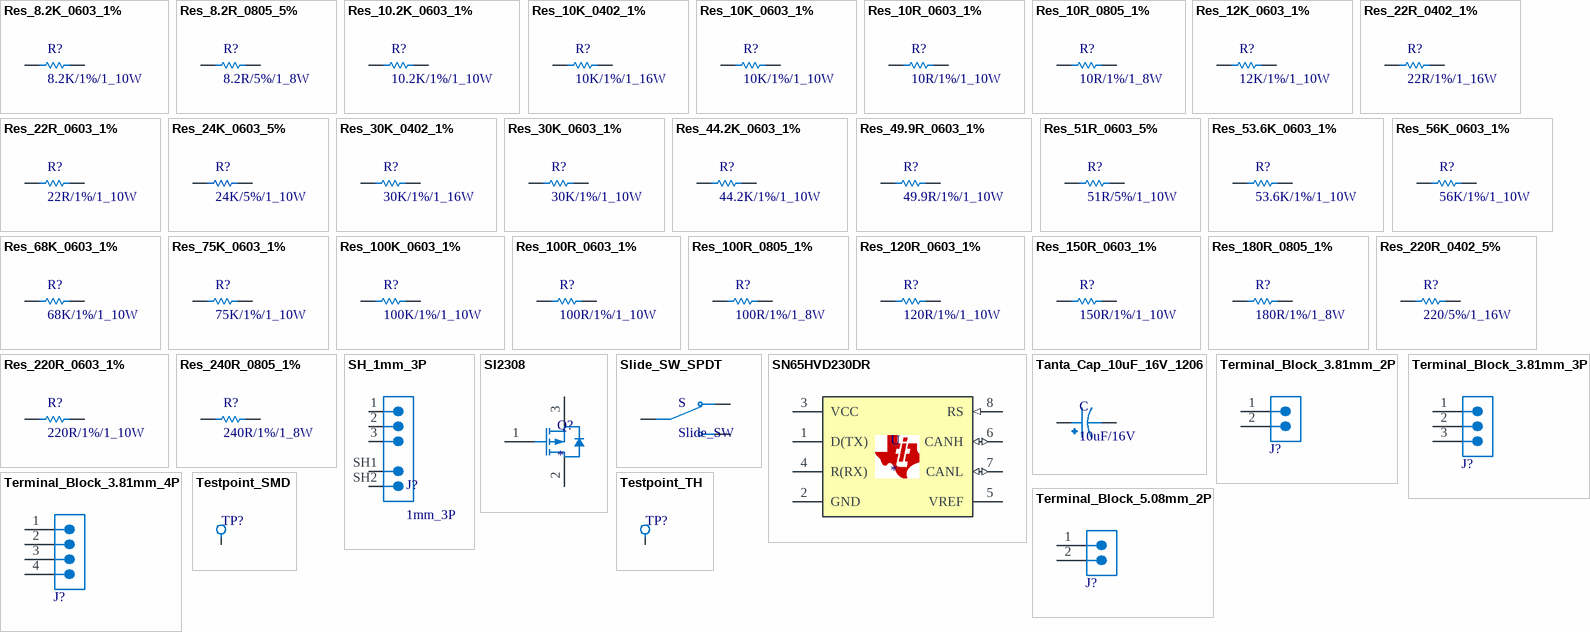
[diagram p2: symbols Res_8.2K_0603_1% to Testpoint_TH]

## Res_8.2K_0603_1%
designator R?, comment 8.2K/1%/1_10W
Resistor 0603 8.2KOhm 1% 1_10W; Supply Part Number: Điện Trở 8.2 KOhm 0603 1%; Supply Name: Thegioiic; Supply URL: https://www.thegioiic.com/dien-tro-8-2-kohm-0603-1-
footprint Resistor_0603
pins: 1, 2

## Res_8.2R_0805_5%
designator R?, comment 8.2R/5%/1_8W
Resistor 0805 8.2 Ohm 5% 1_8W; Supply Part Number: Điện Trở 8.2 Ohm 0805 5%; Supply Name: Thegioiic; Supply URL: https://www.thegioiic.com/dien-tro-8-2-ohm-0805-5-
footprint Resistor_0805 (Chip Resistor, 2-Leads, Body 2,00x1,20mm, IPC Medium Density)
pins: 1, 2

## Res_10.2K_0603_1%
designator R?, comment 10.2K/1%/1_10W
Resistor 0603 10.2KOhm 1% 1_10W; Supply Part Number: Điện Trở 10.2 KOhm 0603 1%; Supply Name: Thegioiic; Supply URL: https://www.thegioiic.com/dien-tro-10-2-kohm-0603-1-
footprint Resistor_0603
pins: 1, 2

## Res_10K_0402_1%
designator R?, comment 10K/1%/1_16W
Resistor 0402 10KOhm 1% 1_16W; Supply Part Number: Điện Trở 10 KOhm 0402 1%; Supply Name: Thegioiic; Supply URL: https://www.thegioiic.com/dien-tro-10-kohm-0402-1-
footprint RESISTOR_0402 (Chip Resistor, 2-Leads, Body 1.50x0.60mm, IPC Medium Density)
pins: 1, 2

## Res_10K_0603_1%
designator R?, comment 10K/1%/1_10W
Resistor 0603 10KOhm 1% 1_10W; Supply Part Number: Điện Trở 10 KOhm 0603 1%; Supply Name: Thegioiic; Supply URL: https://www.thegioiic.com/dien-tro-10-kohm-0603-1-
footprint Resistor_0603
pins: 1, 2

## Res_10R_0603_1%
designator R?, comment 10R/1%/1_10W
Resistor 0603 10 Ohm 1% 1_10W; Supply Part Number: Điện Trở 10 Ohm 0603 1%; Supply Name: Thegioiic; Supply URL: https://www.thegioiic.com/dien-tro-10-ohm-0603-1-
footprint Resistor_0603
pins: 1, 2

## Res_10R_0805_1%
designator R?, comment 10R/1%/1_8W
Resistor 0805 10 Ohm 1% 1_8W; Supply Part Number: Điện Trở 10 Ohm 0805 1%; Supply Name: Thegioiic; Supply URL: https://www.thegioiic.com/dien-tro-10-ohm-0805-1-
footprint Resistor_0805 (Chip Resistor, 2-Leads, Body 2,00x1,20mm, IPC Medium Density)
pins: 1, 2

## Res_12K_0603_1%
designator R?, comment 12K/1%/1_10W
Resistor 0603 12KOhm 1% 1_10W; Supply Part Number: Điện Trở 12 KOhm 0603 1%; Supply Name: Thegioiic; Supply URL: https://www.thegioiic.com/dien-tro-12-kohm-0603-1-
footprint Resistor_0603
pins: 1, 2

## Res_22R_0402_1%
designator R?, comment 22R/1%/1_16W
Resistor 0402 22 Ohm 1% 1_16W; Supply Name: *; Supply Part Number: *; Supply URL: *
footprint RESISTOR_0402 (Chip Resistor, 2-Leads, Body 1.50x0.60mm, IPC Medium Density)
pins: 1, 2

## Res_22R_0603_1%
designator R?, comment 22R/1%/1_10W
Resistor 0603 22 Ohm 1% 1_10W; Supply Part Number: Điện Trở 22 Ohm 0603 1%; Supply Name: Thegioiic; Supply URL: https://www.thegioiic.com/dien-tro-22-ohm-0603-1-
footprint Resistor_0603
pins: 1, 2

## Res_24K_0603_5%
designator R?, comment 24K/5%/1_10W
Resistor 0603 24KOhm 5% 1_10W; Supply Part Number: Điện Trở 24 KOhm 0603 5%; Supply Name: Thegioiic; Supply URL: https://www.thegioiic.com/dien-tro-24-kohm-0603-5-
footprint Resistor_0603
pins: 1, 2

## Res_30K_0402_1%
designator R?, comment 30K/1%/1_16W
Resistor 0402 30KOhm 1% 1_16W; Supply Part Number: Điện Trở 30 KOhm 0402 1%; Supply Name: Thegioiic; Supply URL: https://www.thegioiic.com/dien-tro-30-kohm-0402-1-
footprint RESISTOR_0402 (Chip Resistor, 2-Leads, Body 1.50x0.60mm, IPC Medium Density)
pins: 1, 2

## Res_30K_0603_1%
designator R?, comment 30K/1%/1_10W
Resistor 0603 30KOhm 1% 1_10W; Supply Part Number: Điện Trở 30 KOhm 0603 1%; Supply Name: LinhkienX; Supply URL: https://linhkienx.com/vi/dien-tro-30-kohm-0603-1-
footprint Resistor_0603
pins: 1, 2

## Res_44.2K_0603_1%
designator R?, comment 44.2K/1%/1_10W
Resistor 0603 44.2KOhm 1% 1_10W; Supply Part Number: Điện Trở 44.2 KOhm 0603 1%; Supply Name: Thegioiic; Supply URL: https://www.thegioiic.com/dien-tro-44-2-kohm-0603-1-
footprint Resistor_0603
pins: 1, 2

## Res_49.9R_0603_1%
designator R?, comment 49.9R/1%/1_10W
Resistor 0603 49.9 Ohm 1% 1_10W; Supply Part Number: Điện Trở 49.9 Ohm 0603 1%; Supply Name: Thegioiic; Supply URL: https://www.thegioiic.com/dien-tro-49-9-ohm-0603-1-
footprint Resistor_0603
pins: 1, 2

## Res_51R_0603_5%
designator R?, comment 51R/5%/1_10W
Resistor 0603 51 Ohm 5% 1_10W; Supply Part Number: Điện Trở 51 Ohm 0603 5%; Supply Name: Thegioiic; Supply URL: https://www.thegioiic.com/dien-tro-51-ohm-0603-5-
footprint Resistor_0603
pins: 1, 2

## Res_53.6K_0603_1%
designator R?, comment 53.6K/1%/1_10W
Resistor 0603 53.6KOhm 1% 1_10W; Supply Part Number: Điện Trở 53.6 KOhm 0603 1%; Supply Name: Thegioiic; Supply URL: https://www.thegioiic.com/dien-tro-53-6-kohm-0603-1-
footprint Resistor_0603
pins: 1, 2

## Res_56K_0603_1%
designator R?, comment 56K/1%/1_10W
Resistor 0603 56KOhm 1% 1_10W; Supply Part Number: Điện Trở 56 KOhm 0603 1%; Supply Name: Thegioiic; Supply URL: https://www.thegioiic.com/dien-tro-56-kohm-0603-1-
footprint Resistor_0603
pins: 1, 2

## Res_68K_0603_1%
designator R?, comment 68K/1%/1_10W
Resistor 0603 68KOhm 1% 1_10W; Supply Part Number: Điện Trở 68 KOhm 0603 1%; Supply Name: Thegioiic; Supply URL: https://www.thegioiic.com/dien-tro-68-kohm-0603-1-
footprint Resistor_0603
pins: 1, 2

## Res_75K_0603_1%
designator R?, comment 75K/1%/1_10W
Resistor 0603 75KOhm 1% 1_10W; Supply Part Number: Điện Trở 75 KOhm 0603 1%; Supply Name: Thegioiic; Supply URL: https://www.thegioiic.com/dien-tro-75-kohm-0603-1-
footprint Resistor_0603
pins: 1, 2

## Res_100K_0603_1%
designator R?, comment 100K/1%/1_10W
Resistor 0603 100KOhm 1% 1_10W; Supply Part Number: Điện Trở 100 KOhm 0603 1%; Supply Name: Thegioiic; Supply URL: https://www.thegioiic.com/dien-tro-100-kohm-0603-1-
footprint Resistor_0603
pins: 1, 2

## Res_100R_0603_1%
designator R?, comment 100R/1%/1_10W
Resistor 0603 100 Ohm 1% 1_10W; Supply Part Number: Điện Trở 100 Ohm 0603 1%; Supply Name: Thegioiic; Supply URL: https://www.thegioiic.com/dien-tro-100-ohm-0603-1-
footprint Resistor_0603
pins: 1, 2

## Res_100R_0805_1%
designator R?, comment 100R/1%/1_8W
Resistor 0805 100 Ohm 1% 1_8W; Supply Part Number: Điện Trở 100 Ohm 0805 1%; Supply Name: Thegioiic; Supply URL: https://www.thegioiic.com/dien-tro-100-ohm-0805-1-
footprint Resistor_0603
pins: 1, 2

## Res_120R_0603_1%
designator R?, comment 120R/1%/1_10W
Resistor 0603 120 Ohm 1% 1_10W; Supply Part Number: Điện Trở 120 Ohm 0603 1%; Supply Name: Thegioiic; Supply URL: https://www.thegioiic.com/dien-tro-120-ohm-0603-1-
footprint Resistor_0603
pins: 1, 2

## Res_150R_0603_1%
designator R?, comment 150R/1%/1_10W
Resistor 0603 150 Ohm 1% 1_10W; Supply Part Number: Điện Trở 150 Ohm 0603 1%; Supply Name: Thegioiic; Supply URL: https://www.thegioiic.com/dien-tro-150-ohm-0603-1-
footprint Resistor_0603
pins: 1, 2

## Res_180R_0805_1%
designator R?, comment 180R/1%/1_8W
Resistor 0805 180 Ohm 1% 1_8W; Supply Part Number: Điện Trở 180 Ohm 0805 1%; Supply Name: Thegioiic; Supply URL: https://www.thegioiic.com/dien-tro-180-ohm-0805-1-
footprint Resistor_0805 (Chip Resistor, 2-Leads, Body 2,00x1,20mm, IPC Medium Density)
pins: 1, 2

## Res_220R_0402_5%
designator R?, comment 220/5%/1_16W
Resistor 0402 220 Ohm 5% 1_16W; Supply Part Number: Điện Trở 220 Ohm 0402 5%; Supply Name: Thegioiic; Supply URL: https://www.thegioiic.com/dien-tro-220-ohm-0402-5-
footprint RESISTOR_0402 (Chip Resistor, 2-Leads, Body 1.50x0.60mm, IPC Medium Density)
pins: 1, 2

## Res_220R_0603_1%
designator R?, comment 220R/1%/1_10W
Resistor 0603 220 Ohm 1% 1_10W; Supply Part Number: Điện Trở 220 Ohm 0603 1%; Supply Name: Thegioiic; Supply URL: https://www.thegioiic.com/dien-tro-220-ohm-0603-1-
footprint Resistor_0603
pins: 1, 2

## Res_240R_0805_1%
designator R?, comment 240R/1%/1_8W
Resistor 0805 240 Ohm 1% 1_8W; Supply Part Number: Điện Trở 240 Ohm 0805 1%; Supply Name: Thegioiic; Supply URL: https://www.thegioiic.com/dien-tro-240-ohm-0805-1-
footprint Resistor_0805 (Chip Resistor, 2-Leads, Body 2,00x1,20mm, IPC Medium Density)
pins: 1, 2

## SH_1mm_3P
designator J?, comment 1mm_3P
Đầu SH1.0mm 3 Chân Dán SMD Nằm Ngang; Supply Name: Thegioiic; Supply Part Number: Đầu SH1.0mm 3 Chân Dán SMD Nằm Ngang; Supply URL: https://www.thegioiic.com/dau-sh1-0mm-3-chan-dan-smd-nam-ngang
footprint JST_SH_BM03B-SRSS-TB_1x03-1MP_P1.00mm_horizontal
pins: 1, 2, 3, SH1 SHIELD, SH2 SHIELD

## SI2308
designator Q?
SI2308 SOT23 MOSFET N-CH 2A 60V; Supply Name: BanLinhKien; Datasheet: https://www.mouser.vn/datasheet/2/427/si2308bd-1765649.pdf; Supply Part Number: SI2308 SOT23 MOSFET N-CH 2A 60V; Supply URL: https://banlinhkien.com/si2308-sot23-mosfet-nch-2a-60v-smda8s-5c-p15289840.html
footprint SOT-23
pins: 1 GATE, 2 SOURCE, 3 DRAIN

## Slide_SW_SPDT
designator S, comment Slide_SW
Slide Switch SPDT Through Hole, Right Angle; Supply Part Number: MSK-38 Công Tắc Trượt 3 Chân Xuyên Lỗ ON-ON Chỉnh Ngang 2P2T 0.5A; Supply Name: Thegioiic; Datasheet: *; Supply URL: https://www.thegioiic.com/msk-38-cong-tac-truot-3-chan-xuyen-lo-on-on-chinh-ngang-2p2t-0-5a
footprint Slide_SW
pins: 1, 2, 3

## SN65HVD230DR
designator U
1/1 Transceiver Half CANbus; Supply Part Number: SN65HVD230DR CAN Transceiver 8-SOIC; Supply Name: Thegioiic; Datasheet: https://www.ti.com/lit/ds/symlink/sn65hvd230.pdf; Supply URL: https://www.thegioiic.com/sn65hvd230dr-can-transceiver-8-soic
footprint SOIC-8
pins: 1 D(TX), 2 GND (power), 3 VCC (power), 4 R(RX), 5 VREF (power), 6 CANH (io), 7 CANL (io), 8 RS (in)

## Tanta_Cap_10uF_16V_1206
designator C, comment 10uF/16V
Tantalum Capacitors 10uF 16V 1206; Supply Part Number: AVX; Supply Name: 1206 AVX
footprint TanTa_Cap_A (Size 1206)
pins: 1, 2

## Terminal_Block_3.81mm_2P
designator J?, comment 3.81mm_2P  (value not drawn)
Terminal Block THT, pitch 3.81mm, 2p, 300V, 10A; Supply Part Number: UL-3.81-2-R Terminal Block Plug-in Hàn PCB 2 Chân Cong 3.81mm 300V 10A ULO; Supply Name: Thegioiic; Supply URL: https://www.thegioiic.com/ul-3-81-2-r-terminal-block-plug-in-han-pcb-2-chan-cong-3-81mm-300v-10a-ulo
footprint Terminal_Block_3.81mm_2P (Horizontal PCB Header, pitch 3.81mm, 02p)
pins: 1, 2

## Terminal_Block_3.81mm_3P
designator J?, comment 3.81mm_3P  (value not drawn)
Terminal Block THT, pitch 3.81mm, 3p, 300V 10A; Supply Part Number: UL-3.81-3-R Terminal Block Plug-in Hàn PCB 3 Chân Cong 3.81mm 300V 10A ULO; Supply Name: Thegioiic; Datasheet: *; Supply URL: https://www.thegioiic.com/ul-3-81-3-r-terminal-block-plug-in-han-pcb-3-chan-cong-3-81mm-300v-10a-ulo
footprint Terminal_Block_3.81mm_3P (Horizontal PCB Header, pitch 3.81mm, 03p)
pins: 1, 2, 3

## Terminal_Block_3.81mm_4P
designator J?, comment 3.81mm_4P  (value not drawn)
Terminal Block THT, pitch 3.81mm, 4p, 300V 10A; Supply Part Number: UL-3.81-4-R Terminal Block Plug-in Hàn PCB 4 Chân Cong 3.81mm 300V 10A ULO; Supply Name: Thegioiic; ComponentLink1Description: Website Link; ComponentLink1URL: https://www.we-online.com/redexpert/article/691322310004?ad; ComponentLink2Description: Datasheet Link; ComponentLink2URL: https://www.we-online.com/redexpert/spec/691322310004?ad; Supply URL: https://www.thegioiic.com/ul-3-81-4-r-terminal-block-plug-in-han-pcb-4-chan-cong-3-81mm-300v-10a-ulo
footprint Terminal_Block_3.81mm_4P (Horizontal PCB Header, pitch 3.81mm, 04p)
pins: 1, 2, 3, 4

## Terminal_Block_5.08mm_2P
designator J?, comment 5.08mm_2P  (value not drawn)
Terminal Block THT, pitch 5.08mm, 2p, 300V, 10A; Supply Part Number: UL-5.08-2-R Terminal Block Plug-in Hàn PCB 2 Chân Cong 5.08mm 300V 15A ULO; Supply Name: Thegioiic; Supply URL: https://www.thegioiic.com/ul-5-08-2-r-terminal-block-plug-in-han-pcb-2-chan-cong-5-08mm-300v-15a-ulo
footprint Terminal_Block_5.08mm_2P (5,08mm - PCB Headers - Horizontal - Opened ends - 02p)
pins: 1, 2

## Testpoint_SMD
designator TP?
Datasheet: *; Supply Name: *; Supply Part Number: *; Supply URL: *
footprint TestPoint_Pad_3.0x3.0mm
footprint TestPoint_Pad_D1.5mm
footprint TestPoint_Pad_2.0x2.0mm
pins: 1

## Testpoint_TH
designator TP?
Test Point TEST-1BK; Supply Name: BanLinhKien; Datasheet: *; Supply Part Number: Test Point TEST-1BK; Supply URL: https://banlinhkien.com/test-point-test1bk-mau-den-5c-p18255999.html
footprint TestPoint_THTPad_D1.5mm_Drill0.7mm
pins: 1

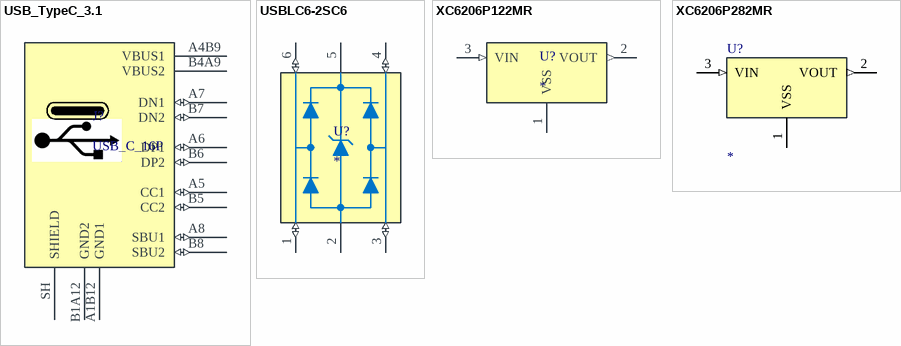
[diagram p3: symbols USB_TypeC_3.1 to XC6206P282MR]

## USB_TypeC_3.1
designator J?, comment USB_C_16P
USB Type C - Connector, Top-mount SMT, 16pos | Molex Incorporated 217179-0001; Supply Part Number: Cổng USB Cái 3.1 Type C 16 Chân Thẳng Dán SMD; Supply Name: Thegioiic; Datasheet: https://www.thegioiic.com/upload/documents/1734591720_TYPE-C-16PIN.pdf; Supply URL: https://www.thegioiic.com/cong-usb-cai-3-1-type-c-16-chan-thang-dan-smd
footprint USB_TypeC_3.1 (Usb Type C 3.1 16pins)
pins: A1B12 GND1 (power), A4B9 VBUS1 (power), A5 CC1 (io), A6 DP1 (io), A7 DN1 (io), A8 SBU1 (io), B1A12 GND2 (power), B4A9 VBUS2 (power), B5 CC2 (io), B6 DP2 (io), B7 DN2 (io), B8 SBU2 (io), SH SHIELD

## USBLC6-2SC6
designator U?
17V Clamp 5A (8/20Âµs) Ipp Tvs Diode Surface Mount SOT-23-6; Supply Part Number: USBLC6-2SC6 TVS diode 5.25V 17V SOT23-6; Supply Name: Icdayroi; Datasheet: https://www.alldatasheet.com/datasheet-pdf/view/111891/STMICROELECTRONICS/USBLC6-2SC6.html; Supply URL: https://icdayroi.com/usblc6-2sc6-tvs-diode-5-25v-17v-sot23-6
footprint SOT-23-6
pins: 1 I/O1_IN (io), 2 GND (power), 3 I/O2_IN (io), 4 I/O2_OUT (io), 5 VBUS (power), 6 I/O1_OUT (io)

## XC6206P122MR
designator U?
LDO Regulator IC 1.2V; Supply Part Number: IC nguồn XC6206P122MR XC6206-1.2V SOT-23; Supply Name: LinhKienThuDuc; Datasheet: https://product.torexsemi.com/system/files/series/xc6206.pdf; Supply URL: https://linhkienthuduc.com/san-pham/ic-nguon-xc6206p122mr-xc6206-1-2v-sot-23/?srsltid=AfmBOoqZu0g7j9WGKrjDl4O5a-JCOUfPSMG8bfJmSCZku9rh09-J63is
footprint SOT-23
pins: 1 VSS, 2 VOUT (out), 3 VIN (in)

## XC6206P282MR
designator U?
LDO Regulator IC 2.8V; Supply Part Number: IC nguồn XC6206P282MR XC6206-2.8V SOT-23; Supply Name: LinhKienThuDuc; Datasheet: https://product.torexsemi.com/system/files/series/xc6206.pdf; Supply URL: https://linhkienthuduc.com/san-pham/ic-nguon-xc6206p282mr-xc6206-2-8v-sot-23/?srsltid=AfmBOoqd3LZKboXW9OfwVV72Gfw02pCDNwWKEzmEXcFyHjhIUeewssqN
footprint SOT-23
pins: 1 VSS, 2 VOUT (out), 3 VIN (in)